# EAGLE library part 74LVC1G126GM,115 (library 74LVC1G126GM_115)
74LVC1G126 - Bus buffer/line driver; 3-state@en-us Source: Datasheet <https://assets.nexperia.com/documents/data-sheet/74LVC1G126.pdf>
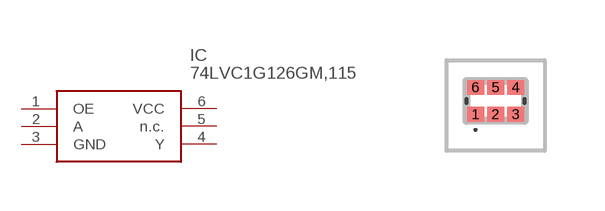
[diagram p0: symbol with the pads of PESD3V3L5UF115; footprint PESD3V3L5UF115]

Designator prefix IC

## 74LVC1G126GM,115 (Description: 74LVC1G126 - Bus buffer/line driver; 3-state@en-us; Height: 0.5mm; Manufacturer_Name: Nexperia; Manufacturer_Part_Number: 74LVC1G126GM,115; Mouser_Part_Number: 771-LVC1G126GM115; Mouser_Price-Stock: https://www.mouser.co.uk/ProductDetail/Nexperia/74LVC1G126GM115?qs=me8TqzrmIYUE2IDcVyc9jA%3D%3D)  [PESD3V3L5UF115]
1  OE
2  A
3  GND
4  Y
5  n.c.
6  VCC

## Footprint PESD3V3L5UF115 (pad centres in mm)
SOT886
smd 0.425 x 0.37: 1 -0.5,-0.337; 2 0,-0.337; 3 0.5,-0.337; 4 0.5,0.337; 5 0,0.337; 6 -0.5,0.337